# EAGLE library part GSM_M10_HD (library v0-cellphone)
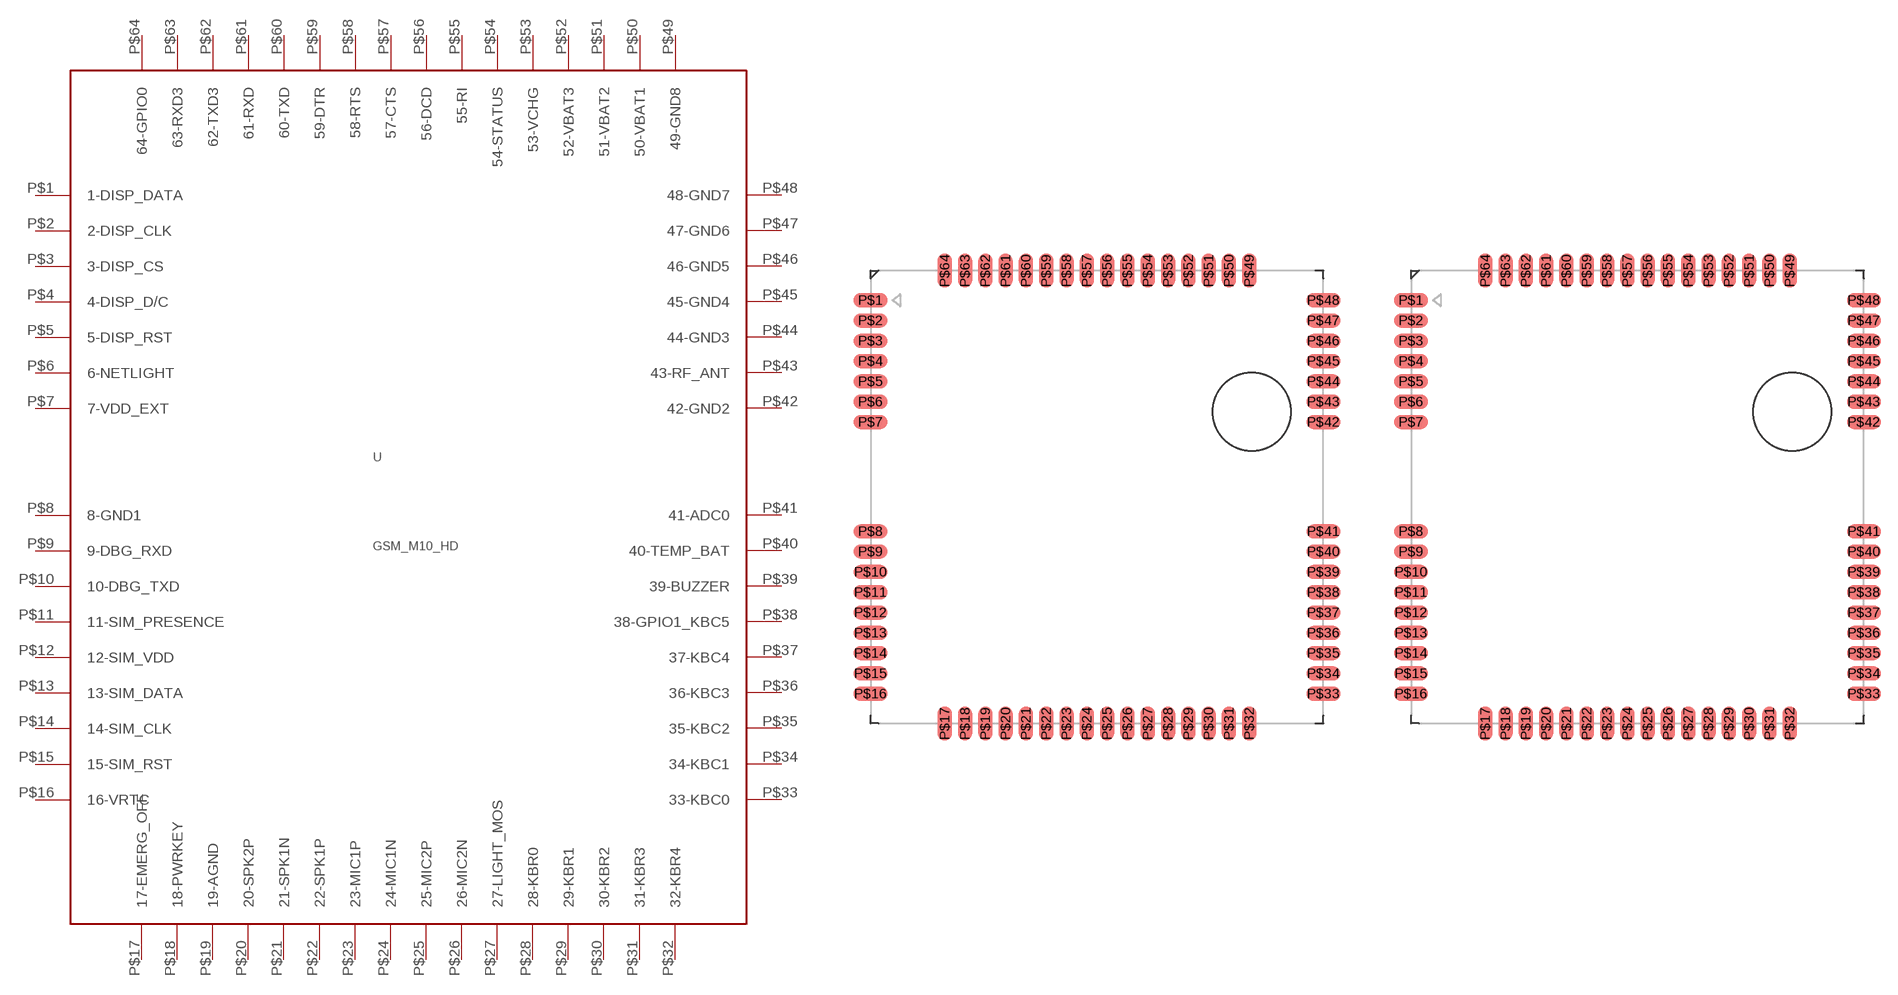
[diagram p0: symbol with the pads of GSM_M10_HD_3MM_EXCLUSION; footprints GSM_M10_HD_3MM_EXCLUSION, GSM_M10_HD_WITHOUT_EXCLUSION]

Designator prefix -

## GSM_M10_HD3MM_EXCLUSION  [GSM_M10_HD_3MM_EXCLUSION]
P$1  1-DISP_DATA
P$2  2-DISP_CLK
P$3  3-DISP_CS
P$4  4-DISP_D/C
P$5  5-DISP_RST
P$6  6-NETLIGHT
P$7  7-VDD_EXT
P$8  8-GND1
P$9  9-DBG_RXD
P$10  10-DBG_TXD
P$11  11-SIM_PRESENCE
P$12  12-SIM_VDD
P$13  13-SIM_DATA
P$14  14-SIM_CLK
P$15  15-SIM_RST
P$16  16-VRTC
P$17  17-EMERG_OFF
P$18  18-PWRKEY
P$19  19-AGND
P$20  20-SPK2P
P$21  21-SPK1N
P$22  22-SPK1P
P$23  23-MIC1P
P$24  24-MIC1N
P$25  25-MIC2P
P$26  26-MIC2N
P$27  27-LIGHT_MOS
P$28  28-KBR0
P$29  29-KBR1
P$30  30-KBR2
P$31  31-KBR3
P$32  32-KBR4
P$33  33-KBC0
P$34  34-KBC1
P$35  35-KBC2
P$36  36-KBC3
P$37  37-KBC4
P$38  38-GPIO1_KBC5
P$39  39-BUZZER
P$40  40-TEMP_BAT
P$41  41-ADC0
P$42  42-GND2
P$43  43-RF_ANT
P$44  44-GND3
P$45  45-GND4
P$46  46-GND5
P$47  47-GND6
P$48  48-GND7
P$49  49-GND8
P$50  50-VBAT1
P$51  51-VBAT2
P$52  52-VBAT3
P$53  53-VCHG
P$54  54-STATUS
P$55  55-RI
P$56  56-DCD
P$57  57-CTS
P$58  58-RTS
P$59  59-DTR
P$60  60-TXD
P$61  61-RXD
P$62  62-TXD3
P$63  63-RXD3
P$64  64-GPIO0

## GSM_M10_HDWITHOUT_EXCLUSION  [GSM_M10_HD_WITHOUT_EXCLUSION]
Pads as for GSM_M10_HD_3MM_EXCLUSION

## Footprint GSM_M10_HD_3MM_EXCLUSION (pad centres in mm)
smd 2.2 x 0.9: P$1 0,27.1; P$2 0,25.8; P$3 0,24.5; P$4 0,23.2; P$5 0,21.9; P$6 0,20.6; P$7 0,19.3; P$8 0,12.3; P$9 0,11; P$10 0,9.7; P$11 0,8.4; P$12 0,7.1; P$13 0,5.8; P$14 0,4.5; P$15 0,3.2; P$16 0,1.9; P$33 29,1.9; P$34 29,3.2; P$35 29,4.5; P$36 29,5.8; P$37 29,7.1; P$38 29,8.4; P$39 29,9.7; P$40 29,11; P$41 29,12.3; P$42 29,19.3; P$43 29,20.6; P$44 29,21.9; P$45 29,23.2; P$46 29,24.5; P$47 29,25.8; P$48 29,27.1
smd 0.9 x 2.2: P$17 4.75,0; P$18 6.05,0; P$19 7.35,0; P$20 8.65,0; P$21 9.95,0; P$22 11.25,0; P$23 12.55,0; P$24 13.85,0; P$25 15.15,0; P$26 16.45,0; P$27 17.75,0; P$28 19.05,0; P$29 20.35,0; P$30 21.65,0; P$31 22.95,0; P$32 24.25,0; P$49 24.25,29; P$50 22.95,29; P$51 21.65,29; P$52 20.35,29; P$53 19.05,29; P$54 17.75,29; P$55 16.45,29; P$56 15.15,29; P$57 13.85,29; P$58 12.55,29; P$59 11.25,29; P$60 9.95,29; P$61 8.65,29; P$62 7.35,29; P$63 6.05,29; P$64 4.75,29

## Footprint GSM_M10_HD_WITHOUT_EXCLUSION (pad centres in mm)
smd 2.2 x 0.9: P$1 0,27.1; P$2 0,25.8; P$3 0,24.5; P$4 0,23.2; P$5 0,21.9; P$6 0,20.6; P$7 0,19.3; P$8 0,12.3; P$9 0,11; P$10 0,9.7; P$11 0,8.4; P$12 0,7.1; P$13 0,5.8; P$14 0,4.5; P$15 0,3.2; P$16 0,1.9; P$33 29,1.9; P$34 29,3.2; P$35 29,4.5; P$36 29,5.8; P$37 29,7.1; P$38 29,8.4; P$39 29,9.7; P$40 29,11; P$41 29,12.3; P$42 29,19.3; P$43 29,20.6; P$44 29,21.9; P$45 29,23.2; P$46 29,24.5; P$47 29,25.8; P$48 29,27.1
smd 0.9 x 2.2: P$17 4.75,0; P$18 6.05,0; P$19 7.35,0; P$20 8.65,0; P$21 9.95,0; P$22 11.25,0; P$23 12.55,0; P$24 13.85,0; P$25 15.15,0; P$26 16.45,0; P$27 17.75,0; P$28 19.05,0; P$29 20.35,0; P$30 21.65,0; P$31 22.95,0; P$32 24.25,0; P$49 24.25,29; P$50 22.95,29; P$51 21.65,29; P$52 20.35,29; P$53 19.05,29; P$54 17.75,29; P$55 16.45,29; P$56 15.15,29; P$57 13.85,29; P$58 12.55,29; P$59 11.25,29; P$60 9.95,29; P$61 8.65,29; P$62 7.35,29; P$63 6.05,29; P$64 4.75,29